# Altium footprint library 常用封装.PcbLib: 264 footprints (part 5 of 17)
Each footprint in its own frame and in the unit in brackets; x right, y up, seen from the top. Pads: shape width x height; smd on the part's side, far side on the other; paste and mask are expansions set on the pad; w line width, h text height; cw(c..) or ccw(c..) is an arc to the next point about the centre after c.
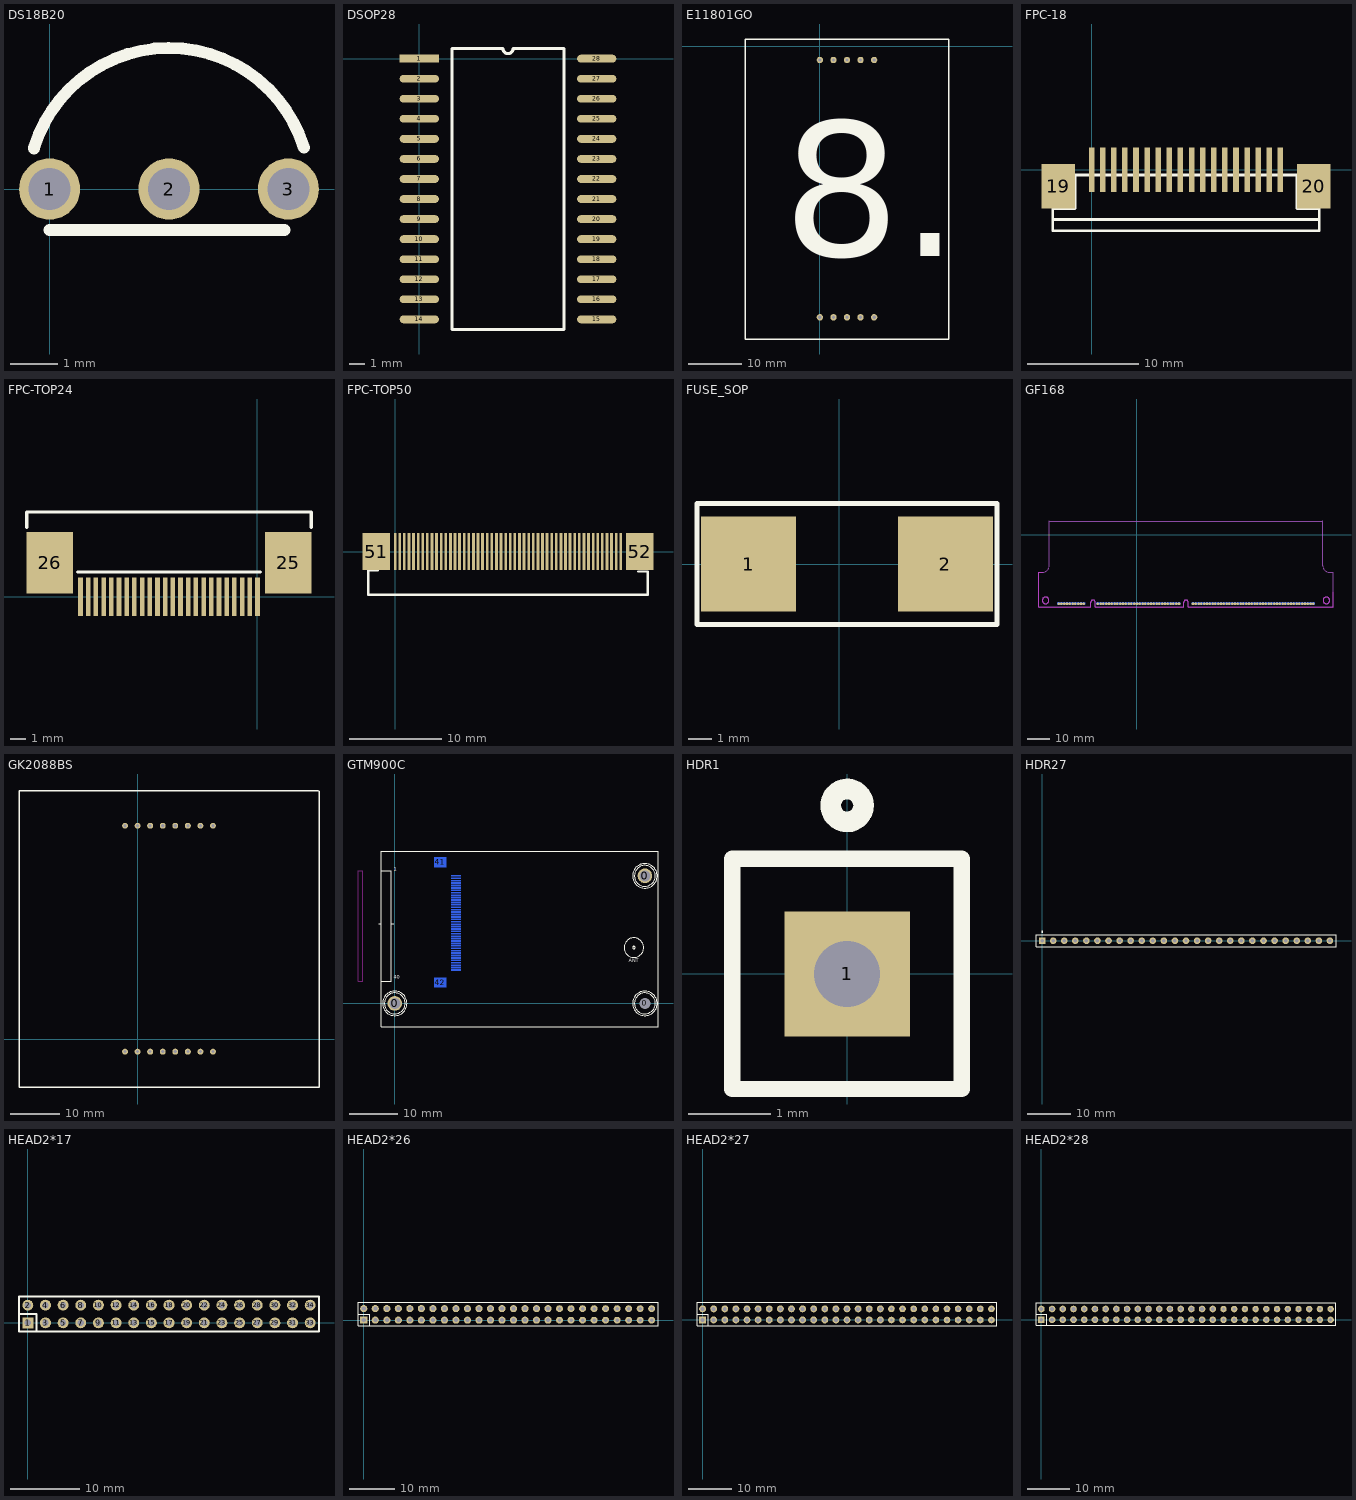
[diagram p4: the footprints below, top view; thin cyan lines are the x and y axes]

## DS18B20 [mm]
height 10
pads (3):
  round 1.3 hole 0.9: 1(0,0) 2(2.54,0) 3(5.08,0)
Top Overlay:
  lines w0.254: -0.333,0.862 cw(c2.54,0) 5.407,0.885 ; 0,-0.875 5,-0.875

## DSOP28 [mm] "DSIZE"
height 1
pads (28):
  rect 2.5x0.5 smd: 1(0,0)
  oval 2.5x0.5 smd: 2(0,-1.277) 3(0,-2.554) 4(0,-3.831) 5(0,-5.108) 6(0,-6.385) 7(0,-7.662) 8(0,-8.939) 9(0,-10.216) 10(0,-11.493) 11(0,-12.77) 12(0,-14.047) 13(0,-15.324) 14(0,-16.601) 15(11.3,-16.601) 16(11.3,-15.324) 17(11.3,-14.047) 18(11.3,-12.77) 19(11.3,-11.493) 20(11.3,-10.216) 21(11.3,-8.939) 22(11.3,-7.662) 23(11.3,-6.385) 24(11.3,-5.108) 25(11.3,-3.831) 26(11.3,-2.554) 27(11.3,-1.277) 28(11.3,0)
Top Overlay:
  lines w0.2: 2.085,-17.24 2.085,0.639 5.331,0.639 ccw(c5.65,0.639) 5.969,0.639 9.215,0.639 9.215,-17.24 2.085,-17.24

## E11801GO [mm] "E11801GO"
height 1.016
pads (10):
  round 1.2 hole 0.635: 1(0,-2.54) 2(2.54,-2.54) 3(5.08,-2.54) 4(7.62,-2.54) 5(10.16,-2.54) 6(10.16,-50.8) 7(7.62,-50.8) 8(5.08,-50.8) 9(2.54,-50.8) 10(0,-50.8)
Top Overlay:
  lines w0.254: -10.16,1.397 22.86,1.397 24.13,1.397 24.13,-28.448 24.13,-54.864 -13.97,-54.864 -13.97,-38.862 -13.97,1.397 -9.906,1.397
  text "8." at -6.985,-39.37 h25.4

## FPC-18 [mm] "18PIN,0.5MM"
height 1
pads (20):
  rect 0.5x4 smd: 1(0,0) 2(1,0) 3(2,0) 4(3,0) 5(4,0) 6(5,0) 7(6,0) 8(7,0) 9(8,0) 10(9,0) 11(10,0) 12(11,0) 13(12,0) 14(13,0) 15(14,0) 16(15,0) 17(16,0) 18(17,0)
  rect 3x4 smd: 19(-3,-1.5) 20(20,-1.5)
Top Overlay:
  lines w0.254: -3.5,-4.5 20.5,-4.5 ; -3.5,-3.5 -1.5,-3.5 -1.5,-0.5 ; 18.5,-0.5 18.5,-3.5 20.5,-3.5 ; -3.5,-5.5 -3.5,-0.5 20.5,-0.5 20.5,-5.5 -3.5,-5.5

## FPC-TOP24 [mm] "FPCTOP;0.5mm;"
height 1
pads (26):
  rect 0.3x2.5 smd: 1(0,0) 2(-0.5,0) 3(-1,0) 4(-1.5,0) 5(-2,0) 6(-2.5,0) 7(-3,0) 8(-3.5,0) 9(-4,0) 10(-4.5,0) 11(-5,0) 12(-5.5,0) 13(-6,0) 14(-6.5,0) 15(-7,0) 16(-7.5,0) 17(-8,0) 18(-8.5,0) 19(-9,0) 20(-9.5,0) 21(-10,0) 22(-10.5,0) 23(-11,0) 24(-11.5,0)
  rect 3x4 smd: 25(2,2.2) 26(-13.5,2.2)
Top Overlay:
  lines w0.203: -15,4.5 -15,5.5 3.5,5.5 3.5,4.6 3.5,4.5 ; -11.7,1.6 0.2,1.6

## FPC-TOP50 [mm] "FPCTOP;0.5mm;"
height 1
pads (52):
  rect 0.3x4 smd: 1(24.5,0) 2(24,0) 3(23.5,0) 4(23,0) 5(22.5,0) 6(22,0) 7(21.5,0) 8(21,0) 9(20.5,0) 10(20,0) 11(19.5,0) 12(19,0) 13(18.5,0) 14(18,0) 15(17.5,0) 16(17,0) 17(16.5,0) 18(16,0) 19(15.5,0) 20(15,0) 21(14.5,0) 22(14,0) 23(13.5,0) 24(13,0) 25(12.5,0) 26(12,0) 27(11.5,0) 28(11,0) 29(10.5,0) 30(10,0) 31(9.5,0) 32(9,0) 33(8.5,0) 34(8,0) 35(7.5,0) 36(7,0) 37(6.5,0) 38(6,0) 39(5.5,0) 40(5,0) 41(4.5,0) 42(4,0) 43(3.5,0) 44(3,0) 45(2.5,0) 46(2,0) 47(1.5,0) 48(1,0) 49(0.5,0) 50(0,0)
  rect 3x4 smd: 51(-2.032,0) 52(26.543,0)
Top Overlay:
  lines w0.254: -1.905,-2.032 -2.921,-2.032 -2.921,-4.699 27.432,-4.699 27.432,-2.159 26.416,-2.159

## FUSE_SOP [mm] "4A;SOP;FUSE;W:5mm;L:12mm;"
height 2
pads (2):
  rect 4x4 smd: 1(-3.81,0) 2(4.445,0)
Top Overlay:
  lines w0.2: -5.969,-2.54 -5.969,2.54 -4.699,2.54 6.604,2.54 6.604,-2.54 -5.969,-2.54

## GF168 [mm] "PORT"
height 50
pads (168):
  oct 1.2x1.2 smd: A1(-35.382,-31.242) A2(-34.112,-31.242) A3(-32.842,-31.242) A4(-31.572,-31.242) A5(-30.302,-31.242) A6(-29.032,-31.242) A7(-27.762,-31.242) A8(-26.492,-31.242) A9(-25.222,-31.242) A10(-23.952,-31.242) A11(-17.602,-31.242) A12(-16.332,-31.242) A13(-15.062,-31.242) A14(-13.792,-31.242) A15(-12.522,-31.242) A16(-11.252,-31.242) A17(-9.982,-31.242) A18(-8.712,-31.242) A19(-7.442,-31.242) A20(-6.172,-31.242) A21(-4.902,-31.242) A22(-3.632,-31.242) A23(-2.362,-31.242) A24(-1.092,-31.242) A25(0.178,-31.242) A26(1.448,-31.242) A27(2.718,-31.242) A28(3.988,-31.242) A29(5.258,-31.242) A30(6.528,-31.242) A31(7.798,-31.242) A32(9.068,-31.242) A33(10.338,-31.242) A34(11.608,-31.242) A35(12.878,-31.242) A36(14.148,-31.242) A37(15.418,-31.242) A38(16.688,-31.242) A39(17.958,-31.242) A40(19.228,-31.242) A41(25.578,-31.242) A42(26.848,-31.242) A43(28.118,-31.242) A44(29.388,-31.242) A45(30.658,-31.242) A46(31.928,-31.242) A47(33.198,-31.242) A48(34.468,-31.242) A49(35.738,-31.242) A50(37.008,-31.242) A51(38.278,-31.242) A52(39.548,-31.242) A53(40.818,-31.242) A54(42.088,-31.242) A55(43.358,-31.242) A56(44.628,-31.242) A57(45.898,-31.242) A58(47.168,-31.242) A59(48.438,-31.242) A60(49.708,-31.242) A61(50.978,-31.242) A62(52.248,-31.242) A63(53.518,-31.242) A64(54.788,-31.242) A65(56.058,-31.242) A66(57.328,-31.242) A67(58.598,-31.242) A68(59.868,-31.242) A69(61.138,-31.242) A70(62.408,-31.242) A71(63.678,-31.242) A72(64.948,-31.242) A73(66.218,-31.242) A74(67.488,-31.242) A75(68.758,-31.242) A76(70.028,-31.242) A77(71.298,-31.242) A78(72.568,-31.242) A79(73.838,-31.242) A80(75.108,-31.242) A81(76.378,-31.242) A82(77.648,-31.242) A83(78.918,-31.242) A84(80.188,-31.242)
  oct 1.2x1.2 smd far side: B1(-35.382,-31.242) B2(-34.112,-31.242) B3(-32.842,-31.242) B4(-31.572,-31.242) B5(-30.302,-31.242) B6(-29.032,-31.242) B7(-27.762,-31.242) B8(-26.492,-31.242) B9(-25.222,-31.242) B10(-23.952,-31.242) B11(-17.602,-31.242) B12(-16.332,-31.242) B13(-15.062,-31.242) B14(-13.792,-31.242) B15(-12.522,-31.242) B16(-11.252,-31.242) B17(-9.982,-31.242) B18(-8.712,-31.242) B19(-7.442,-31.242) B20(-6.172,-31.242) B21(-4.902,-31.242) B22(-3.632,-31.242) B23(-2.362,-31.242) B24(-1.092,-31.242) B25(0.178,-31.242) B26(1.448,-31.242) B27(2.718,-31.242) B28(3.988,-31.242) B29(5.258,-31.242) B30(6.528,-31.242) B31(7.798,-31.242) B32(9.068,-31.242) B33(10.338,-31.242) B34(11.608,-31.242) B35(12.878,-31.242) B36(14.148,-31.242) B37(15.418,-31.242) B38(16.688,-31.242) B39(17.958,-31.242) B40(19.228,-31.242) B41(25.578,-31.242) B42(26.848,-31.242) B43(28.118,-31.242) B44(29.388,-31.242) B45(30.658,-31.242) B46(31.928,-31.242) B47(33.198,-31.242) B48(34.468,-31.242) B49(35.738,-31.242) B50(37.008,-31.242) B51(38.278,-31.242) B52(39.548,-31.242) B53(40.818,-31.242) B54(42.088,-31.242) B55(43.358,-31.242) B56(44.628,-31.242) B57(45.898,-31.242) B58(47.168,-31.242) B59(48.438,-31.242) B60(49.708,-31.242) B61(50.978,-31.242) B62(52.248,-31.242) B63(53.518,-31.242) B64(54.788,-31.242) B65(56.058,-31.242) B66(57.328,-31.242) B67(58.598,-31.242) B68(59.868,-31.242) B69(61.138,-31.242) B70(62.408,-31.242) B71(63.678,-31.242) B72(64.948,-31.242) B73(66.218,-31.242) B74(67.488,-31.242) B75(68.758,-31.242) B76(70.028,-31.242) B77(71.298,-31.242) B78(72.568,-31.242) B79(73.838,-31.242) B80(75.108,-31.242) B81(76.378,-31.242) B82(77.648,-31.242) B83(78.918,-31.242) B84(80.188,-31.242)
Keep-Out Layer:
  circle w0.254: c-41.272,-29.777 r1.5
  circle w0.254: c86.078,-29.777 r1.5
  lines w0.254: -44.348,-17.82 -44.348,-17.058 -44.323,-17.033 -42.672,-17.033 ; -44.347,-22.9 -44.347,-17.083 ; -44.347,-22.622 -44.347,-32.777 -23.952,-32.777 -20.777,-32.777 -20.777,-30.657 cw(c-19.777,-30.657) -18.777,-30.657 -18.777,-32.777 21.403,-32.777 21.403,-30.657 cw(c22.403,-30.657) 23.403,-30.657 23.403,-32.777 89.153,-32.777 89.153,-25.95
Mechanical 1:
  circle w0.254: c-41.272,-29.762 r1.5
  circle w0.254: c86.078,-29.762 r1.5
  lines w0.254: -44.348,-17.805 -44.348,-17.043 -44.323,-17.018 -42.672,-17.018 ; -44.347,-22.885 -44.347,-17.068 ; -44.347,-22.607 -44.347,-32.762 -23.952,-32.762 -20.777,-32.762 -20.777,-30.642 cw(c-19.777,-30.642) -18.777,-30.642 -18.777,-32.762 21.403,-32.762 21.403,-30.642 cw(c22.403,-30.642) 23.403,-30.642 23.403,-32.762 89.153,-32.762 89.153,-25.935 ; -42.649,-17.021 ccw(c-42.649,-14.021) -39.649,-14.021 -39.649,6.248 ; -39.597,6.238 84.403,6.238 ; 84.43,-14.021 84.43,6.248 ; 84.455,-14.021 ccw(c87.455,-14.021) 87.455,-17.021 ; 87.274,-17.018 89.103,-17.018 ; 89.153,-26.238 89.153,-16.991

## GK2088BS [mm] "GK2088BS"
height 8
pads (16):
  round 1.2 hole 0.635: 1(-2.54,-2.54) 2(0,-2.54) 3(2.54,-2.54) 4(5.08,-2.54) 5(7.62,-2.54) 6(10.16,-2.54) 7(12.7,-2.54) 8(15.24,-2.54) 9(15.24,43.18) 10(12.7,43.18) 11(10.16,43.18) 12(7.62,43.18) 13(5.08,43.18) 14(2.54,43.18) 15(0,43.18) 16(-2.54,43.18)
Top Overlay:
  lines w0.254: -24.003,47.752 -24.003,50.292 -10.16,50.292 ; -24.003,48.895 -24.003,-6.35 -24.003,-9.779 -13.462,-9.779 ; -13.716,-9.779 19.812,-9.779 ; -11.303,50.292 28.829,50.292 36.576,50.292 36.703,50.165 36.703,45.847 ; 19.177,-9.779 33.274,-9.779 ; 32.385,-9.779 36.703,-9.779 36.703,-6.223 36.703,46.736

## GTM900C [mil] "HW,GTM900C"
height 393.7
pads (45):
  round 120 hole 90: 0(0,1) 0(2040,1041)
  round 78.74 hole 90: 0(2040,1)
  rect 80x10 smd far side: 1(500,1041) 2(500,1021.32) 3(500,1001.63) 4(500,981.94) 5(500,962.26) 6(500,942.57) 7(500,922.89) 8(500,903.2) 9(500,883.52) 10(500,863.83) 11(500,844.15) 12(500,824.46) 13(500,804.78) 14(500,785.09) 15(500,765.41) 16(500,745.72) 17(500,726.04) 18(500,706.35) 19(500,686.67) 20(500,666.98) 21(500,647.3) 22(500,627.61) 23(500,607.93) 24(500,588.24) 25(500,568.56) 26(500,548.87) 27(500,529.19) 28(500,509.5) 29(500,489.82) 30(500,470.13) 31(500,450.45) 32(500,430.76) 33(500,411.08) 34(500,391.39) 35(500,371.71) 36(500,352.02) 37(500,332.34) 38(500,312.65) 39(500,292.97) 40(500,273.28)
  rect 100x80 smd far side: 41(370,1151) 42(370,171)
Top Overlay:
  circle w7: c2040,1041 r100
  circle w7: c2040,1 r100
  circle w4: c1950,456 r10
  circle w7: c1950,456 r80
  circle w7: c0,1 r100
  circle w7: c0,1 r85
  circle w7: c2040,1 r85
  circle w7: c2040,1041 r85
  lines w7: -130,651 -110,651 ; -110,181 -30,181 -30,201 -30,1081 -110,1081 ; -30,651 -10,651 ; -110,-189 2147,-189 2147,1241 -110,1241 -110,-189
  text "ANT" at 1910,336 h30
  text "1" at -10,1081 h30
  text "40" at -10,201 h30
Bottom Overlay:
  lines w7: 240,661 260,661 ; 315,171 240,171 240,1141 240,1151 315,1151 ; 425,171 500,171 500,261 ; 425,1151 500,1151 500,1066
  text "40" at 520,193.28 h30
  text "1" at 510,1073.28 h30
Keep-Out Layer:
  lines w10: -300,181 -300,1081 -260,1081 -260,181 -300,181

## HDR1 [mil] "Connector; Header; 1 Position"
height 472.44
pads (1):
  rect 60x60 hole 31.5: 1(0,0)
Top Overlay:
  circle w9.84: c0,80.71 r7.87
  lines w7.87: -55.12,-55.12 -55.12,55.12 55,55.12 55,-55.12 -55.12,-55.12

## HDR27 [mil] "Connector; Header; 27 Position"
height 472.44
pads (27):
  rect 60x60 hole 31.5: 1(0,0)
  round 60 hole 31.5: 2(100,0) 3(200,0) 4(300,0) 5(400,0) 6(500,0) 7(600,0) 8(700,0) 9(800,0) 10(900,0) 11(1000,0) 12(1100,0) 13(1200,0) 14(1300,0) 15(1400,0) 16(1500,0) 17(1600,0) 18(1700,0) 19(1800,0) 20(1900,0) 21(2000,0) 22(2100,0) 23(2200,0) 24(2300,0) 25(2400,0) 26(2500,0) 27(2600,0)
Top Overlay:
  circle w9.84: c0,80.71 r4.92
  lines w7.87: -55.12,-55.12 2655,-55.12 2655,55.12 -55.12,55.12 -55.12,-55.12

## HEAD2*17 [mil] "PIN:2.54mm;HEAD;"
height 393.7
pads (34):
  rect 62x62 hole 35: 1(0.42,0.42)
  round 62 hole 35: 2(0.42,100.42) 3(100.42,0.42) 4(100.42,100.42) 5(200.43,0.42) 6(200.43,100.42) 7(300.43,0.42) 8(300.43,100.42) 9(400.43,0.42) 10(400.43,100.42) 11(500.43,0.42) 12(500.43,100.42) 13(600.42,0.42) 14(600.42,100.42) 15(700.42,0.42) 16(700.42,100.42) 17(800.42,0.42) 18(800.42,100.42) 19(900.42,0.42) 20(900.42,100.42) 21(1000.42,0.42) 22(1000.42,100.42) 23(1100.42,0.42) 24(1100.42,100.42) 25(1200.42,0.42) 26(1200.42,100.42) 27(1300.42,0.42) 28(1300.42,100.42) 29(1400.42,0.42) 30(1400.42,100.42) 31(1500.42,0.42) 32(1500.42,100.42) 33(1600.42,0.42) 34(1600.42,100.42)
Top Overlay:
  lines w12: -49.58,50.42 50.42,50.42 50.42,-49.58 ; -49.58,-49.58 1650.42,-49.58 1650.42,150.43 -49.58,150.43 -49.58,-49.58

## HEAD2*26 [mil] "PIN:2.54mm;HEAD;"
height 393.7
pads (52):
  rect 62x62 hole 35: 1(0.42,0.42)
  round 62 hole 35: 2(0.42,100.42) 3(100.42,0.42) 4(100.42,100.42) 5(200.43,0.42) 6(200.43,100.42) 7(300.43,0.42) 8(300.43,100.42) 9(400.43,0.42) 10(400.43,100.42) 11(500.43,0.42) 12(500.43,100.42) 13(600.42,0.42) 14(600.42,100.42) 15(700.42,0.42) 16(700.42,100.42) 17(800.42,0.42) 18(800.42,100.42) 19(900.42,0.42) 20(900.42,100.42) 21(1000.42,0.42) 22(1000.42,100.42) 23(1100.42,0.42) 24(1100.42,100.42) 25(1200.42,0.42) 26(1200.42,100.42) 27(1300.42,0.42) 28(1300.42,100.42) 29(1400.42,0.42) 30(1400.42,100.42) 31(1500.42,0.42) 32(1500.42,100.42) 33(1600.42,0.42) 34(1600.42,100.42)
  round 60 hole 30: 35(1700,0) 36(1700,100) 37(1800,0) 38(1800,100) 39(1900,0) 40(1900,100) 41(2000,0) 42(2000,100) 43(2100,0) 44(2100,100) 45(2200,0) 46(2200,100) 47(2300,0) 48(2300,100) 49(2400,0) 50(2400,100) 51(2500,0) 52(2500,100)
Top Overlay:
  lines w7: -49.58,51.18 51.18,51.18 51.18,-49.58 ; -49.58,-49.58 -49.58,150.43 -49.58,155.87 -47.97,157.48 2555.12,157.48 2555.12,-49.58 1650.42,-49.58 -49.58,-49.58

## HEAD2*27 [mil] "PIN:2.54mm;HEAD;"
height 393.7
pads (54):
  rect 62x62 hole 35: 1(0.42,0.42)
  round 62 hole 35: 2(0.42,100.42) 3(100.42,0.42) 4(100.42,100.42) 5(200.43,0.42) 6(200.43,100.42) 7(300.43,0.42) 8(300.43,100.42) 9(400.43,0.42) 10(400.43,100.42) 11(500.43,0.42) 12(500.43,100.42) 13(600.42,0.42) 14(600.42,100.42) 15(700.42,0.42) 16(700.42,100.42) 17(800.42,0.42) 18(800.42,100.42) 19(900.42,0.42) 20(900.42,100.42) 21(1000.42,0.42) 22(1000.42,100.42) 23(1100.42,0.42) 24(1100.42,100.42) 25(1200.42,0.42) 26(1200.42,100.42) 27(1300.42,0.42) 28(1300.42,100.42) 29(1400.42,0.42) 30(1400.42,100.42) 31(1500.42,0.42) 32(1500.42,100.42) 33(1600.42,0.42) 34(1600.42,100.42)
  round 60 hole 30: 35(1700,0) 36(1700,100) 37(1800,0) 38(1800,100) 39(1900,0) 40(1900,100) 41(2000,0) 42(2000,100) 43(2100,0) 44(2100,100) 45(2200,0) 46(2200,100) 47(2300,0) 48(2300,100) 49(2400,0) 50(2400,100) 51(2500,0) 52(2500,100) 53(2600,0) 54(2600,100)
Top Overlay:
  lines w7: -49.58,51.18 51.18,51.18 51.18,-49.58 ; -49.58,-49.58 1650.42,-49.58 2650,-49.58 2650,157.48 -47.97,157.48 -49.58,155.87 -49.58,150.43 -49.58,-49.58

## HEAD2*28 [mil] "PIN:2.54mm;HEAD;"
height 393.7
pads (56):
  rect 62x62 hole 35: 1(0.42,0.42)
  round 62 hole 35: 2(0.42,100.42) 3(100.42,0.42) 4(100.42,100.42) 5(200.43,0.42) 6(200.43,100.42) 7(300.43,0.42) 8(300.43,100.42) 9(400.43,0.42) 10(400.43,100.42) 11(500.43,0.42) 12(500.43,100.42) 13(600.42,0.42) 14(600.42,100.42) 15(700.42,0.42) 16(700.42,100.42) 17(800.42,0.42) 18(800.42,100.42) 19(900.42,0.42) 20(900.42,100.42) 21(1000.42,0.42) 22(1000.42,100.42) 23(1100.42,0.42) 24(1100.42,100.42) 25(1200.42,0.42) 26(1200.42,100.42) 27(1300.42,0.42) 28(1300.42,100.42) 29(1400.42,0.42) 30(1400.42,100.42) 31(1500.42,0.42) 32(1500.42,100.42) 33(1600.42,0.42) 34(1600.42,100.42)
  round 60 hole 30: 35(1700,0) 36(1700,100) 37(1800,0) 38(1800,100) 39(1900,0) 40(1900,100) 41(2000,0) 42(2000,100) 43(2100,0) 44(2100,100) 45(2200,0) 46(2200,100) 47(2300,0) 48(2300,100) 49(2400,0) 50(2400,100) 51(2500,0) 52(2500,100) 53(2600,0) 54(2600,100) 55(2700,0) 56(2700,100)
Top Overlay:
  lines w7: -49.58,51.18 51.18,51.18 51.18,-49.58 ; -49.58,-49.58 -49.58,150.43 -49.58,155.87 -47.97,157.48 2750,157.48 2750,-49.58 1650.42,-49.58 -49.58,-49.58